# Altium integrated library Analog Devices Data Converters Digital-to-Analog Converters.IntLib: 2231 symbols (part 105 of 181)
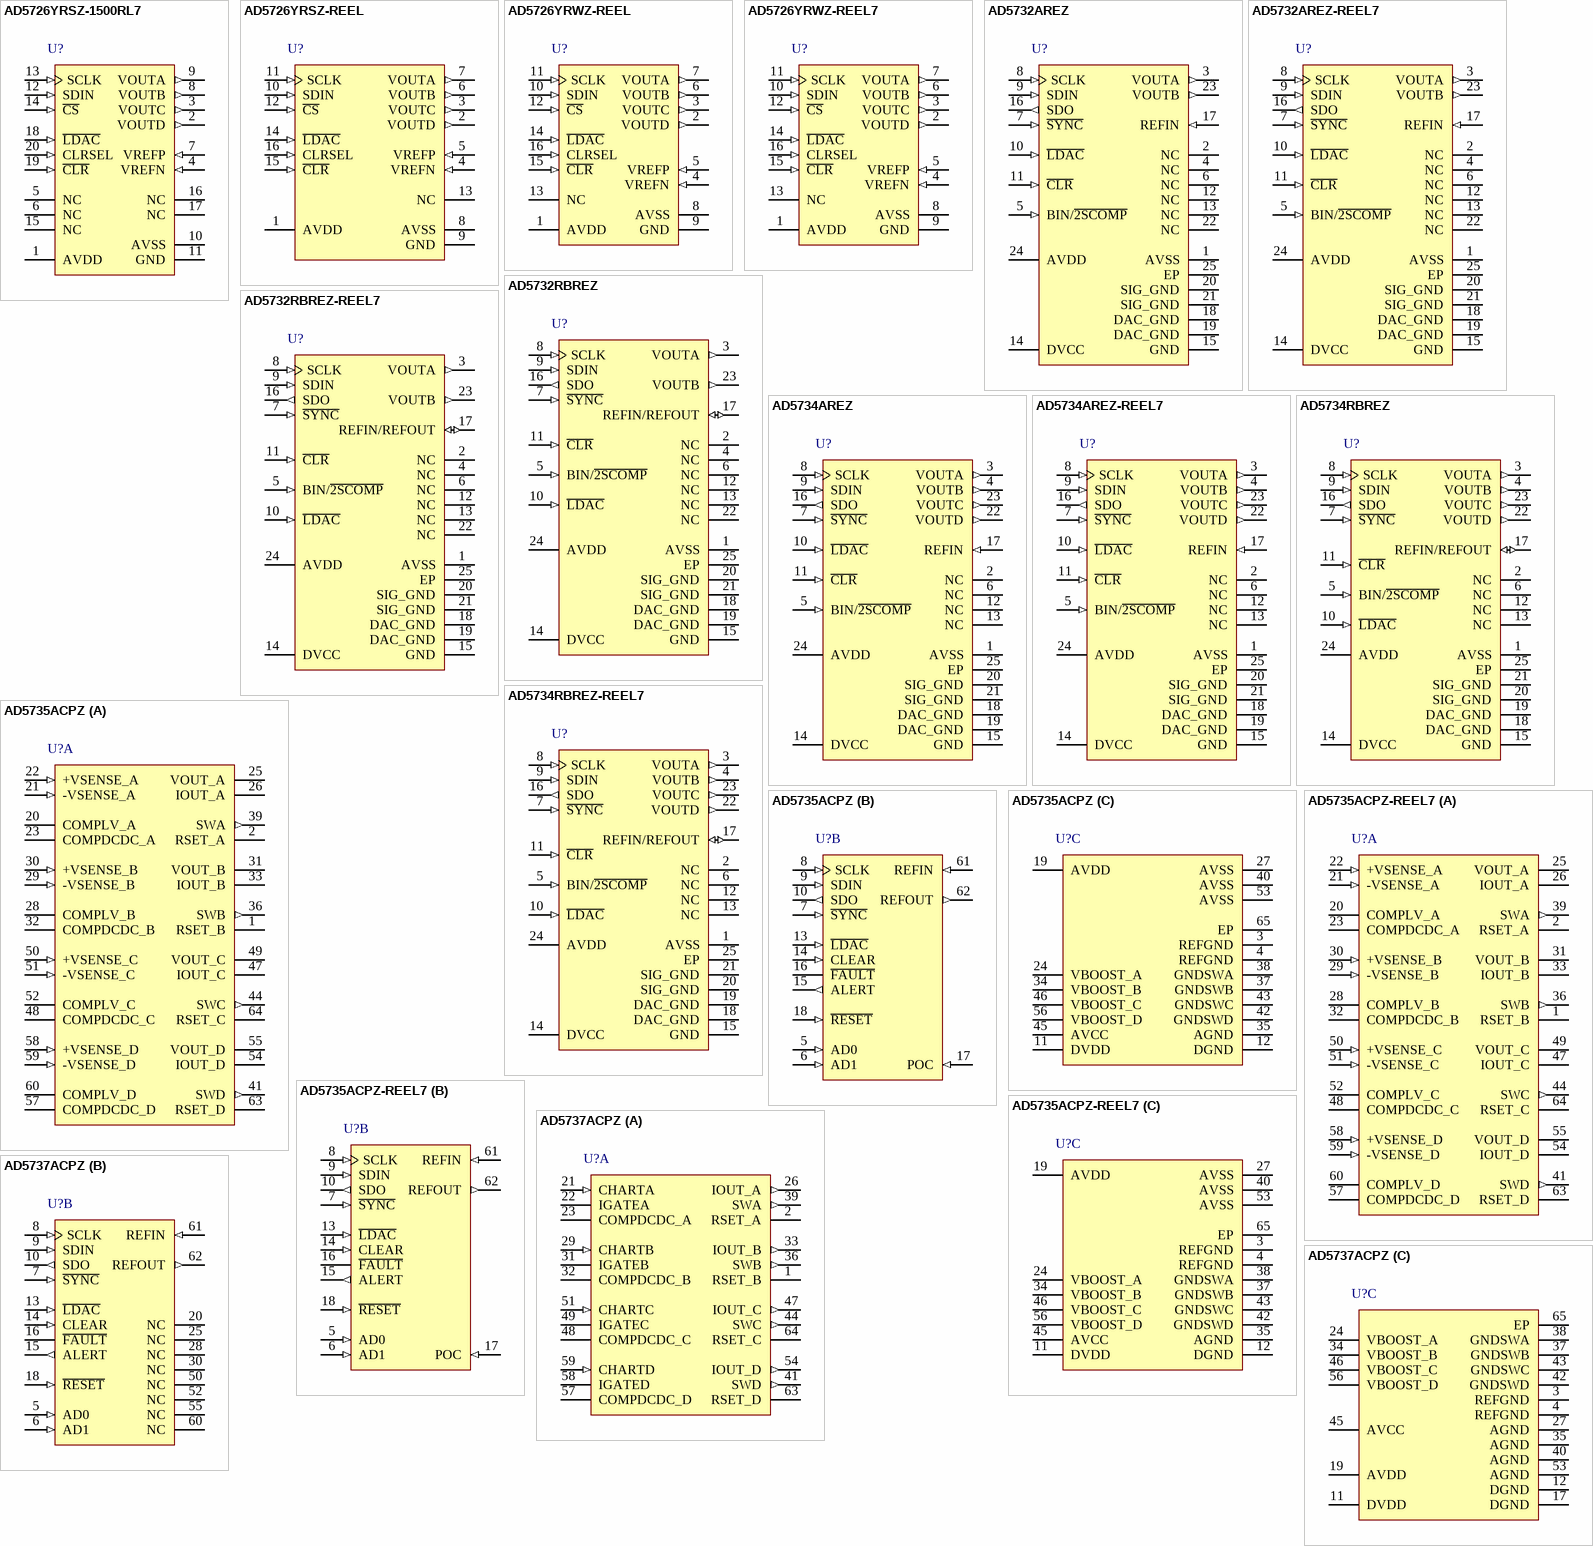
[diagram p218: symbols AD5726YRSZ-1500RL7 to AD5737ACPZ]

## AD5737ACPZ
designator U?
Quad 12-Bit Digital-to-Analog Converter with Serial Interface and HART Connectivity, 4 to 20 mA, -40 to +105 degC, CP-64-3, Pb-Free, Tray; Generic Part Number: AD5737; Manufacturer: Analog Devices; PartNumber: AD5737ACPZ; # DAC Outputs: 4; Max V+: 33V; Op Pwr Diss: 155mW; Resolution (Bits): 12; Settling Time: 15µs; Single Supply: No; DatasheetVersion: Rev.B; PackageVersion: 051007-C; PackageReference: CP-64-3; PackageDescription: 64-Lead Lead Frame Chip Scale Package [LFCSP_VQ] 9 x 9 mm Body, Very Thin Quad; Supplier 1: Digi-Key; Supplier Part Number 1: AD5737ACPZ-ND; Supplier 2: Farnell; Supplier Part Number 2: 2008772; Supplier 3: Newark; Supplier Part Number 3: 61T7405; Supplier 4: Newark; Supplier Part Number 4: 58T8899; Supplier 5: Mouser; Supplier Part Number 5: 584-AD5737ACPZ; Packing: Tray; RoHS: Y; Mounting Technology: Surface Mount; Code_JEDEC: MO-220-VMMD-4; ComponentLink1Description: Manufacturer URL; ComponentLink1URL: http://www.analog.com/en/index.html; ComponentLink2Description: Datasheet; ComponentLink2URL: http://www.analog.com/static/imported-files/data_sheets/AD5737.PDF; ComponentLink3Description: Package Specification; ComponentLink3URL: http://www.analog.com/static/imported-files/packages/PKG_PDF/LFCSP(CP)/CP_64_3.pdf; ComponentLink4Description: Product URL; ComponentLink4URL: http://www.analog.com/en/digital-to-analog-converters/da-converters/ad5737/products/product.html
footprint CP-64-3_N (QFN, 64-Leads, Body 9x9mm, Pitch 0.5mm, Thermal Pad 7.1x7.1mm, IPC Medium Density)
footprint CP-64-3_L (QFN, 64-Leads, Body 9x9mm, Pitch 0.5mm, Thermal Pad 7.1x7.1mm, IPC High Density)
footprint CP-64-3_M (QFN, 64-Leads, Body 9x9mm, Pitch 0.5mm, Thermal Pad 7.1x7.1mm, IPC Low Density)
part A pins: 1 RSET_B "An external, precision, low drift, 15 kohm current setting resistor can be connected to this pin to improve the IOUT_B temperature drift performance. For more information, see the External Current Setting Resistor section.", 2 RSET_A "An external, precision, low drift, 15 kohm current setting resistor can be connected to this pin to improve the IOUT_A temperature drift performance. For more information, see the External Current Setting Resistor section.", 21 CHARTA (in) "HART Input Connection for DAC Channel A. For more information, see the HART Connectivity section.", 22 IGATEA "Optional Connection for External Pass Transistor. Leave this pin unconnected when using the dc-to-dc converter. For more information, see the External PMOS Mode section.", 23 COMPDCDC_A "DC-to-DC Compensation Capacitor. Connect a 10 nF capacitor from this pin to ground. Used to regulate the feedback loop of the Channel A dc-to-dc converter. Alternatively, if using an external compensation resistor, place a (See Datasheet)", 26 IOUT_A (out) "Current Output Pin for DAC Channel A.", 29 CHARTB (in) "HART Input Connection for DAC Channel B. For more information, see the HART Connectivity section.", 31 IGATEB "Optional Connection for External Pass Transistor. Leave this pin unconnected when using the dc-to-dc converter. For more information, see the External PMOS Mode section.", 32 COMPDCDC_B "DC-to-DC Compensation Capacitor. Connect a 10 nF capacitor from this pin to ground. Used to regulate the feedback loop of the Channel B dc-to-dc converter. Alternatively, if using an external compensation resistor,feedback (See Datasheet)", 33 IOUT_B (out) "Current Output Pin for DAC Channel B.", 36 SWB (out) "Switching Output for Channel B DC-to-DC Circuitry. To use the dc-to-dc converter, connect this pin as shown in Figure 55.", 39 SWA (out) "Switching Output for Channel A DC-to-DC Circuitry. To use the dc-to-dc converter, connect this pin as shown in Figure 55.", 41 SWD (out) "Switching Output for Channel D DC-to-DC Circuitry. To use the dc-to-dc converter, connect this pin as shown in Figure 55.", 44 SWC (out) "Switching Output for Channel C DC-to-DC Circuitry. To use the dc-to-dc converter, connect this pin as shown in Figure 55.", 47 IOUT_C (out) "Current Output Pin for DAC Channel C.", 48 COMPDCDC_C "DC-to-DC Compensation Capacitor. Connect a 10 nF capacitor from this pin to ground. Used to regulate the feedback loop of the Channel C dc-to-dc converter. Alternatively, if using an external compensation resistor,place a (See Datasheet)", 49 IGATEC "Optional Connection for External Pass Transistor. Leave this pin unconnected when using the dc-to-dc converter. For more information, see the External PMOS Mode section.", 51 CHARTC (in) "HART Input Connection for DAC Channel C. For more information, see the HART Connectivity section.", 54 IOUT_D (out) "Current Output Pin for DAC Channel D.", 57 COMPDCDC_D "DC-to-DC Compensation Capacitor. Connect a 10 nF capacitor from this pin to ground. Used to regulate the feedback loop of the Channel D dc-to-dc converter. Alternatively, if using an external compensation resistor,place a (See Datasheet)", 58 IGATED "Optional Connection for External Pass Transistor. Leave this pin unconnected when using the dc-to-dc converter. For more information, see the External PMOS Mode section.", 59 CHARTD (in) "HART Input Connection for DAC Channel D. For more information, see the HART Connectivity section.", 63 RSET_D "An external, precision, low drift, 15 kohm current setting resistor can be connected to this pin to improve the IOUT_D temperature drift performance. For more information, see the External Current Setting Resistor section.", 64 RSET_C "An external, precision, low drift, 15 kohm current setting resistor can be connected to this pin to improve the IOUT_C temperature drift performance. For more information, see the External Current Setting Resistor section."
part B pins: 5 AD0 (in) "Address Decode for the Device Under Test (DUT) on the Board.", 6 AD1 (in) "Address Decode for the DUT on the Board.", 7 ~{SYNC} (in) "Frame Synchronization Signal for the Serial Interface. Active low input. When S\Y\N\C\ is low, data is clocked into the input shift register on the falling edge of SCLK.", 8 SCLK (in) "Serial Clock Input. Data is clocked into the input shift register on the falling edge of SCLK. The serial interface operates at clock speeds of up to 30 MHz.", 9 SDIN (in) "Serial Data Input. Data must be valid on the falling edge of SCLK.", 10 SDO (out) "Serial Data Output. Used to clock data from the serial register in readback mode (see Figure 4 and Figure 5).", 13 ~{LDAC} (in) "Load DAC. This active low input is used to update the DAC register and, consequently, the DAC outputs.When L\D\A\C\ is tied permanently low, the addressed DAC data register is updated on the rising edge of S\Y\N\C\. If (See Datasheet)", 14 CLEAR (in) "Active High, Edge Sensitive Input. When this pin is asserted, the output current is set to the programmed clear code bit setting. Only channels enabled to be cleared are cleared. For more information, see the Asynchronous (See Datasheet)", 15 ALERT (out) "Active High Output. This pin is asserted when there is no SPI activity on the interface pins for a preset time.", 16 ~{FAULT} (oc) "Active Low, Open-Drain Output. This pin is asserted low when any of the following conditions is detected:open circuit, PEC error, or an overtemperature condition (see the Fault Output section).", 18 ~{RESET} (in) "Hardware Reset, Active Low Input.", 20 NC "No Connect. Do not connect to this pin.", 25 NC "No Connect. Do not connect to this pin.", 28 NC "No Connect. Do not connect to this pin.", 30 NC "No Connect. Do not connect to this pin.", 50 NC "No Connect. Do not connect to this pin.", 52 NC "No Connect. Do not connect to this pin.", 55 NC "No Connect. Do not connect to this pin.", 60 NC "No Connect. Do not connect to this pin.", 61 REFIN (in) "External Reference Voltage Input.", 62 REFOUT (out) "Internal Reference Voltage Output. It is recommended that a 0.1 uF capacitor be placed between REFOUT and REFGND."
part C pins: 3 REFGND (power) "Ground Reference Point for Internal Reference.", 4 REFGND (power) "Ground Reference Point for Internal Reference.", 11 DVDD (power) "Digital Supply Pin. The voltage range is from 2.7 V to 5.5 V.", 12 DGND (power) "Digital Ground.", 17 DGND (power) "Digital Ground.", 19 AVDD (power) "Positive Analog Supply Pin. The voltage range is from 9 V to 33 V.", 24 VBOOST_A (power) "Supply for Channel A Current Output Stage (see Figure 48). To use the dc-to-dc converter, connect this pin as shown in Figure 55.", 27 AGND (power) "Ground Reference Point for Analog Circuitry. This pin must be connected to 0 V.", 34 VBOOST_B (power) "Supply for Channel B Current Output Stage (see Figure 48). To use the dc-to-dc converter, connect this pin as shown in Figure 55.", 35 AGND (power) "Ground Reference Point for Analog Circuitry. This pin must be connected to 0 V.", 37 GNDSWB (power) "Ground Connection for DC-to-DC Switching Circuit. This pin should always be connected to ground.", 38 GNDSWA (power) "Ground Connection for DC-to-DC Switching Circuit. This pin should always be connected to ground.", 40 AGND (power) "Ground Reference Point for Analog Circuitry. This pin must be connected to 0 V.", 42 GNDSWD (power) "Ground Connection for DC-to-DC Switching Circuit. This pin should always be connected to ground.", 43 GNDSWC (power) "Ground Connection for DC-to-DC Switching Circuit. This pin should always be connected to ground.", 45 AVCC (power) "Supply for DC-to-DC Circuitry. The voltage range is from 4.5 V to 5.5 V.", 46 VBOOST_C (power) "Supply for Channel C Current Output Stage (see Figure 48). To use the dc-to-dc converter, connect this pin as shown in Figure 55.", 53 AGND (power) "Ground Reference Point for Analog Circuitry. This pin must be connected to 0 V.", 56 VBOOST_D (power) "Supply for Channel D Current Output Stage (see Figure 48). To use the dc-to-dc converter, connect this pin as shown in Figure 55.", 65 EP (power) "Exposed Pad. The exposed paddle should be connected to AGND, or, alternatively, it can be left electrically unconnected. It is recommended that the paddle be thermally connected to a copper plane for enhanced thermal (See Datasheet)"

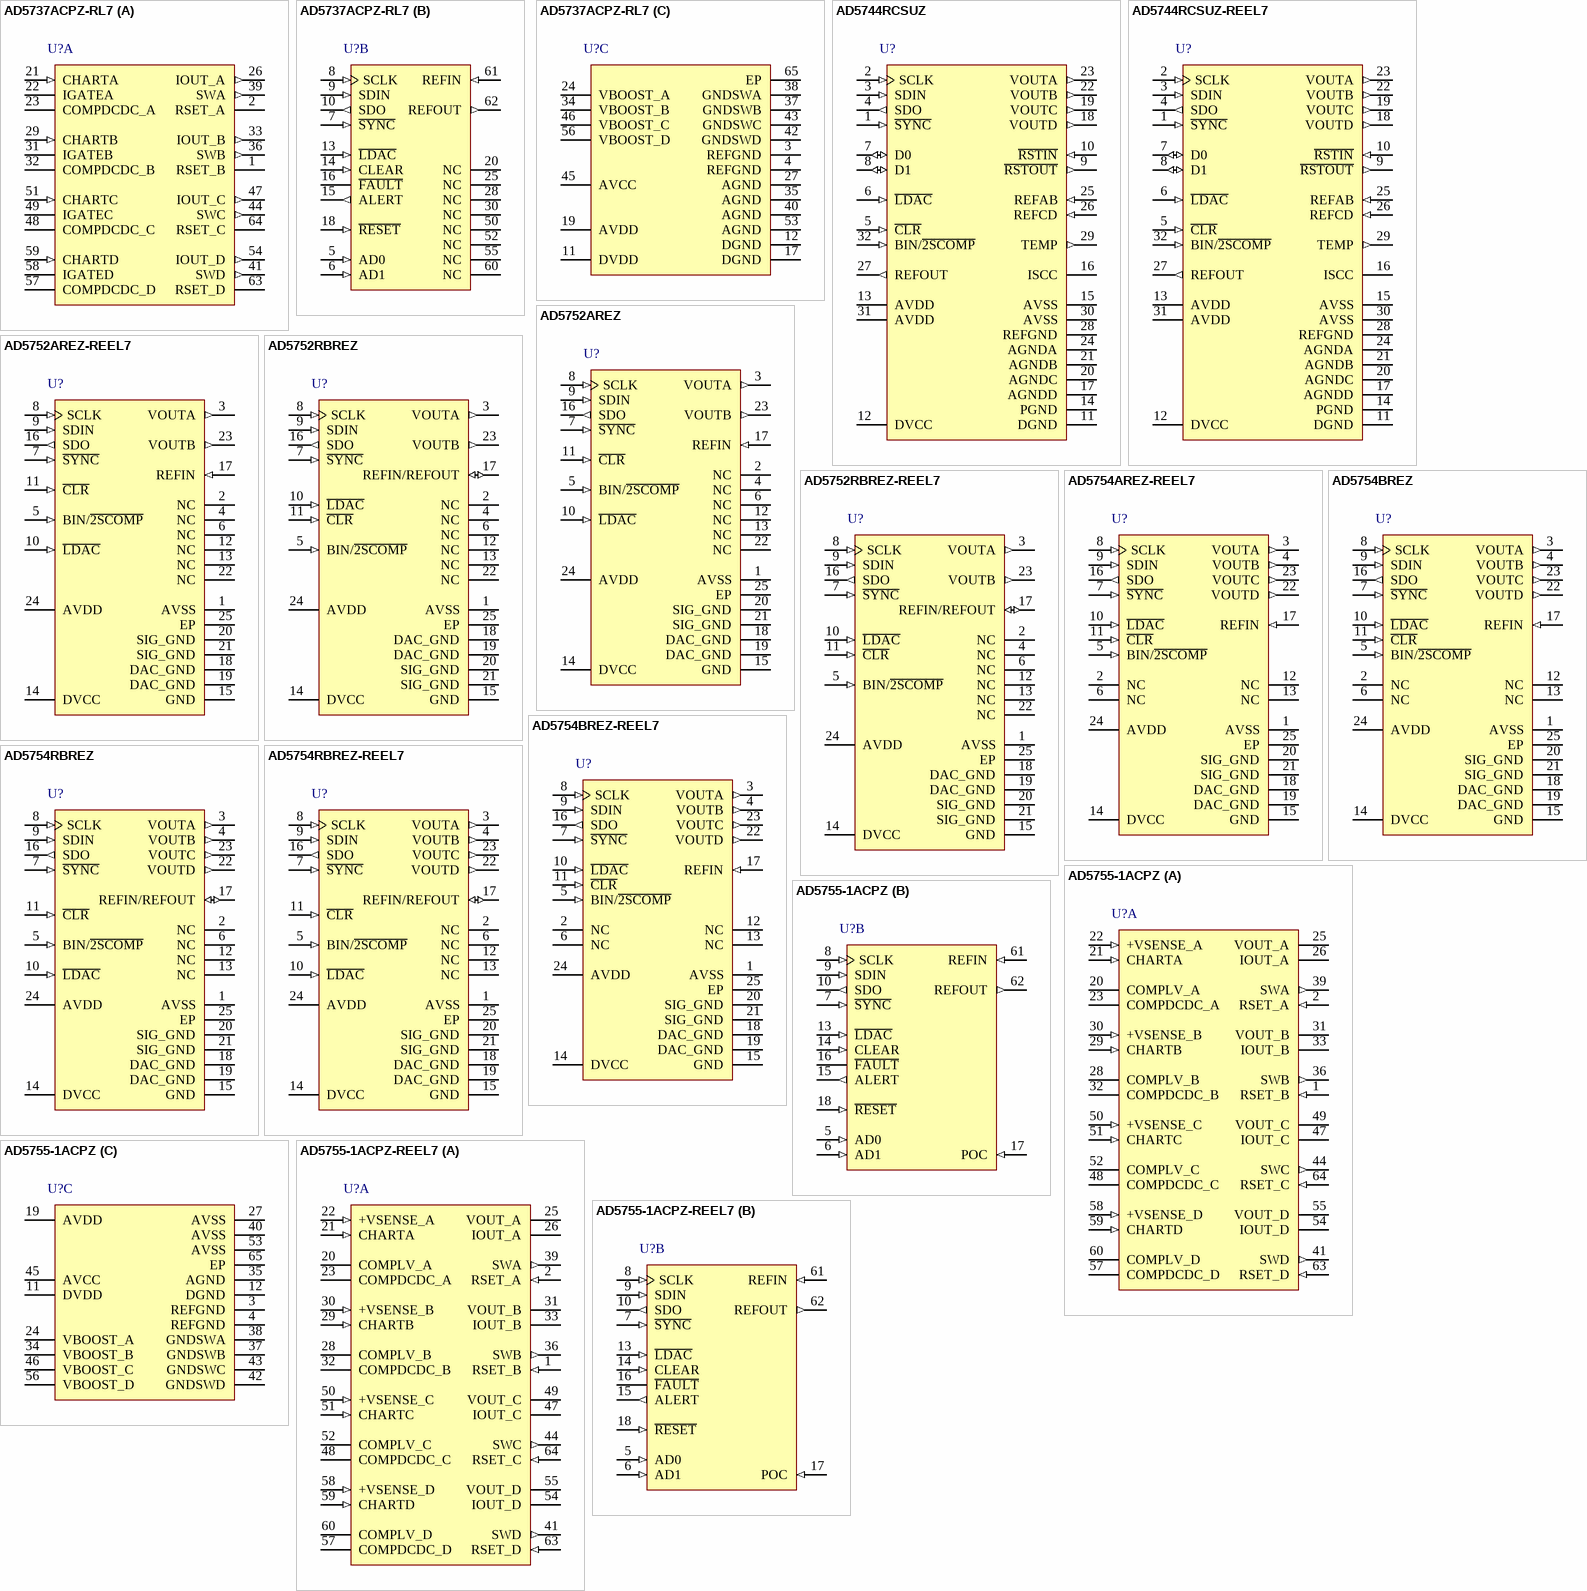
[diagram p55: symbols AD5737ACPZ-RL7 to AD5755-1ACPZ-REEL7]

## AD5737ACPZ-RL7
designator U?
Quad 12-Bit Digital-to-Analog Converter with Serial Interface and HART Connectivity, 4 to 20 mA, -40 to +105 degC, CP-64-3, Pb-Free, Reel; Generic Part Number: AD5737; Manufacturer: Analog Devices; PartNumber: AD5737ACPZ-RL7; # DAC Outputs: 4; Max V+: 33V; Op Pwr Diss: 155mW; Resolution (Bits): 12; Settling Time: 15µs; Single Supply: No; DatasheetVersion: Rev.B; PackageVersion: 051007-C; PackageReference: CP-64-3; PackageDescription: 64-Lead Lead Frame Chip Scale Package [LFCSP_VQ] 9 x 9 mm Body, Very Thin Quad; Supplier 1: Mouser; Supplier Part Number 1: N/A; Packing: Reel; RoHS: Y; Mounting Technology: Surface Mount; Code_JEDEC: MO-220-VMMD-4; ComponentLink1Description: Manufacturer URL; ComponentLink1URL: http://www.analog.com/en/index.html; ComponentLink2Description: Datasheet; ComponentLink2URL: http://www.analog.com/static/imported-files/data_sheets/AD5737.PDF; ComponentLink3Description: Package Specification; ComponentLink3URL: http://www.analog.com/static/imported-files/packages/PKG_PDF/LFCSP(CP)/CP_64_3.pdf; ComponentLink4Description: Product URL; ComponentLink4URL: http://www.analog.com/en/digital-to-analog-converters/da-converters/ad5737/products/product.html
footprint CP-64-3_N (QFN, 64-Leads, Body 9x9mm, Pitch 0.5mm, Thermal Pad 7.1x7.1mm, IPC Medium Density)
footprint CP-64-3_L (QFN, 64-Leads, Body 9x9mm, Pitch 0.5mm, Thermal Pad 7.1x7.1mm, IPC High Density)
footprint CP-64-3_M (QFN, 64-Leads, Body 9x9mm, Pitch 0.5mm, Thermal Pad 7.1x7.1mm, IPC Low Density)
part A pins: 1 RSET_B "An external, precision, low drift, 15 kohm current setting resistor can be connected to this pin to improve the IOUT_B temperature drift performance. For more information, see the External Current Setting Resistor section.", 2 RSET_A "An external, precision, low drift, 15 kohm current setting resistor can be connected to this pin to improve the IOUT_A temperature drift performance. For more information, see the External Current Setting Resistor section.", 21 CHARTA (in) "HART Input Connection for DAC Channel A. For more information, see the HART Connectivity section.", 22 IGATEA "Optional Connection for External Pass Transistor. Leave this pin unconnected when using the dc-to-dc converter. For more information, see the External PMOS Mode section.", 23 COMPDCDC_A "DC-to-DC Compensation Capacitor. Connect a 10 nF capacitor from this pin to ground. Used to regulate the feedback loop of the Channel A dc-to-dc converter. Alternatively, if using an external compensation resistor, place a (See Datasheet)", 26 IOUT_A (out) "Current Output Pin for DAC Channel A.", 29 CHARTB (in) "HART Input Connection for DAC Channel B. For more information, see the HART Connectivity section.", 31 IGATEB "Optional Connection for External Pass Transistor. Leave this pin unconnected when using the dc-to-dc converter. For more information, see the External PMOS Mode section.", 32 COMPDCDC_B "DC-to-DC Compensation Capacitor. Connect a 10 nF capacitor from this pin to ground. Used to regulate the feedback loop of the Channel B dc-to-dc converter. Alternatively, if using an external compensation resistor,feedback (See Datasheet)", 33 IOUT_B (out) "Current Output Pin for DAC Channel B.", 36 SWB (out) "Switching Output for Channel B DC-to-DC Circuitry. To use the dc-to-dc converter, connect this pin as shown in Figure 55.", 39 SWA (out) "Switching Output for Channel A DC-to-DC Circuitry. To use the dc-to-dc converter, connect this pin as shown in Figure 55.", 41 SWD (out) "Switching Output for Channel D DC-to-DC Circuitry. To use the dc-to-dc converter, connect this pin as shown in Figure 55.", 44 SWC (out) "Switching Output for Channel C DC-to-DC Circuitry. To use the dc-to-dc converter, connect this pin as shown in Figure 55.", 47 IOUT_C (out) "Current Output Pin for DAC Channel C.", 48 COMPDCDC_C "DC-to-DC Compensation Capacitor. Connect a 10 nF capacitor from this pin to ground. Used to regulate the feedback loop of the Channel C dc-to-dc converter. Alternatively, if using an external compensation resistor,place a (See Datasheet)", 49 IGATEC "Optional Connection for External Pass Transistor. Leave this pin unconnected when using the dc-to-dc converter. For more information, see the External PMOS Mode section.", 51 CHARTC (in) "HART Input Connection for DAC Channel C. For more information, see the HART Connectivity section.", 54 IOUT_D (out) "Current Output Pin for DAC Channel D.", 57 COMPDCDC_D "DC-to-DC Compensation Capacitor. Connect a 10 nF capacitor from this pin to ground. Used to regulate the feedback loop of the Channel D dc-to-dc converter. Alternatively, if using an external compensation resistor,place a (See Datasheet)", 58 IGATED "Optional Connection for External Pass Transistor. Leave this pin unconnected when using the dc-to-dc converter. For more information, see the External PMOS Mode section.", 59 CHARTD (in) "HART Input Connection for DAC Channel D. For more information, see the HART Connectivity section.", 63 RSET_D "An external, precision, low drift, 15 kohm current setting resistor can be connected to this pin to improve the IOUT_D temperature drift performance. For more information, see the External Current Setting Resistor section.", 64 RSET_C "An external, precision, low drift, 15 kohm current setting resistor can be connected to this pin to improve the IOUT_C temperature drift performance. For more information, see the External Current Setting Resistor section."
part B pins: 5 AD0 (in) "Address Decode for the Device Under Test (DUT) on the Board.", 6 AD1 (in) "Address Decode for the DUT on the Board.", 7 ~{SYNC} (in) "Frame Synchronization Signal for the Serial Interface. Active low input. When S\Y\N\C\ is low, data is clocked into the input shift register on the falling edge of SCLK.", 8 SCLK (in) "Serial Clock Input. Data is clocked into the input shift register on the falling edge of SCLK. The serial interface operates at clock speeds of up to 30 MHz.", 9 SDIN (in) "Serial Data Input. Data must be valid on the falling edge of SCLK.", 10 SDO (out) "Serial Data Output. Used to clock data from the serial register in readback mode (see Figure 4 and Figure 5).", 13 ~{LDAC} (in) "Load DAC. This active low input is used to update the DAC register and, consequently, the DAC outputs.When L\D\A\C\ is tied permanently low, the addressed DAC data register is updated on the rising edge of S\Y\N\C\. If (See Datasheet)", 14 CLEAR (in) "Active High, Edge Sensitive Input. When this pin is asserted, the output current is set to the programmed clear code bit setting. Only channels enabled to be cleared are cleared. For more information, see the Asynchronous (See Datasheet)", 15 ALERT (out) "Active High Output. This pin is asserted when there is no SPI activity on the interface pins for a preset time.", 16 ~{FAULT} (oc) "Active Low, Open-Drain Output. This pin is asserted low when any of the following conditions is detected:open circuit, PEC error, or an overtemperature condition (see the Fault Output section).", 18 ~{RESET} (in) "Hardware Reset, Active Low Input.", 20 NC "No Connect. Do not connect to this pin.", 25 NC "No Connect. Do not connect to this pin.", 28 NC "No Connect. Do not connect to this pin.", 30 NC "No Connect. Do not connect to this pin.", 50 NC "No Connect. Do not connect to this pin.", 52 NC "No Connect. Do not connect to this pin.", 55 NC "No Connect. Do not connect to this pin.", 60 NC "No Connect. Do not connect to this pin.", 61 REFIN (in) "External Reference Voltage Input.", 62 REFOUT (out) "Internal Reference Voltage Output. It is recommended that a 0.1 uF capacitor be placed between REFOUT and REFGND."
part C pins: 3 REFGND (power) "Ground Reference Point for Internal Reference.", 4 REFGND (power) "Ground Reference Point for Internal Reference.", 11 DVDD (power) "Digital Supply Pin. The voltage range is from 2.7 V to 5.5 V.", 12 DGND (power) "Digital Ground.", 17 DGND (power) "Digital Ground.", 19 AVDD (power) "Positive Analog Supply Pin. The voltage range is from 9 V to 33 V.", 24 VBOOST_A (power) "Supply for Channel A Current Output Stage (see Figure 48). To use the dc-to-dc converter, connect this pin as shown in Figure 55.", 27 AGND (power) "Ground Reference Point for Analog Circuitry. This pin must be connected to 0 V.", 34 VBOOST_B (power) "Supply for Channel B Current Output Stage (see Figure 48). To use the dc-to-dc converter, connect this pin as shown in Figure 55.", 35 AGND (power) "Ground Reference Point for Analog Circuitry. This pin must be connected to 0 V.", 37 GNDSWB (power) "Ground Connection for DC-to-DC Switching Circuit. This pin should always be connected to ground.", 38 GNDSWA (power) "Ground Connection for DC-to-DC Switching Circuit. This pin should always be connected to ground.", 40 AGND (power) "Ground Reference Point for Analog Circuitry. This pin must be connected to 0 V.", 42 GNDSWD (power) "Ground Connection for DC-to-DC Switching Circuit. This pin should always be connected to ground.", 43 GNDSWC (power) "Ground Connection for DC-to-DC Switching Circuit. This pin should always be connected to ground.", 45 AVCC (power) "Supply for DC-to-DC Circuitry. The voltage range is from 4.5 V to 5.5 V.", 46 VBOOST_C (power) "Supply for Channel C Current Output Stage (see Figure 48). To use the dc-to-dc converter, connect this pin as shown in Figure 55.", 53 AGND (power) "Ground Reference Point for Analog Circuitry. This pin must be connected to 0 V.", 56 VBOOST_D (power) "Supply for Channel D Current Output Stage (see Figure 48). To use the dc-to-dc converter, connect this pin as shown in Figure 55.", 65 EP (power) "Exposed Pad. The exposed paddle should be connected to AGND, or, alternatively, it can be left electrically unconnected. It is recommended that the paddle be thermally connected to a copper plane for enhanced thermal (See Datasheet)"

## AD5744RCSUZ
designator U?
Quad 14-Bit Bipolar Voltage Output Digital-to-Analog Converter with Serial Interface, -40 to +85 degC, SU-32-2, Pb-Free, Tray; Generic Part Number: AD5744R; Manufacturer: Analog Devices; PartNumber: AD5744RCSUZ; # DAC Outputs: 4; Max V+: 16.5V; Op Pwr Diss: 387mW; Resolution (Bits): 14; Settling Time: 8µs; Single Supply: No; DatasheetVersion: Rev.E; PackageVersion: 2004; PackageReference: SU-32-2; PackageDescription: 32-Lead Thin Plastic Quad Flat Package [TQFP]; Supplier 1: Digi-Key; Supplier Part Number 1: AD5744RCSUZ-ND; Supplier 2: Newark; Supplier Part Number 2: 34P3170; Supplier 3: Mouser; Supplier Part Number 3: 584-AD5744RCSUZ; Packing: Tray; RoHS: Y; Mounting Technology: Surface Mount; Code_JEDEC: MS-026-ABA; ComponentLink1Description: Manufacturer URL; ComponentLink1URL: http://www.analog.com/en/index.html; ComponentLink2Description: Datasheet; ComponentLink2URL: http://www.analog.com/static/imported-files/data_sheets/AD5744R.pdf; ComponentLink3Description: Package Specification; ComponentLink3URL: http://www.analog.com/static/imported-files/packages/6298531260360306615SU_32_2.pdf; ComponentLink4Description: Product URL; ComponentLink4URL: http://www.analog.com/en/digital-to-analog-converters/da-converters/ad5744r/products/product.html
footprint SU-32-2_N (Thin QFP, 32-Leads, Body 7x7mm, Pitch 0.8mm, IPC Medium Density)
footprint SU-32-2_L (Thin QFP, 32-Leads, Body 7x7mm, Pitch 0.8mm, IPC High Density)
footprint SU-32-2_M (Thin QFP, 32-Leads, Body 7x7mm, Pitch 0.8mm, IPC Low Density)
pins: 1 ~{SYNC} (in) "Active Low Input. This is the frame synchronization signal for the serial interface. While S\Y\N\C\ is low, data is transferred in on the falling edge of SCLK.", 2 SCLK (in) "Serial Clock Input. Data is clocked into the shift register on the falling edge of SCLK. This operates at clock speeds of up to 30 MHz.", 3 SDIN (in) "Serial Data Input. Data must be valid on the falling edge of SCLK.", 4 SDO (out) "Serial Data Output. This pin is used to clock data from the serial register in daisy-chain or readback mode", 5 ~{CLR} (in) "Negative Edge Triggered Input.1 Asserting this pin sets the data register to 0x0000.", 6 ~{LDAC} (in) "Load DAC. This logic input is used to update the data register and, consequently, the analog outputs. When tied permanently low, the addressed data register is updated on the rising edge of S\Y\N\C\. If L\D\A\C\ is held high (See Datasheet)", 7 D0 (io) "Digital I/O Port. D0 and D1 form a digital I/O port. The user can set up these pins as inputs or outputs that are configurable and readable over the serial interface. When configured as inputs, these pins have weak internal (See Datasheet)", 8 D1 (io) "Digital I/O Port. D0 and D1 form a digital I/O port. The user can set up these pins as inputs or outputs that are configurable and readable over the serial interface. When configured as inputs, these pins have weak internal (See Datasheet)", 9 ~{RSTOUT} (out) "Reset Logic Output. This is the output from the on-chip voltage monitor used in the reset circuit. If desired, it can be used to control other system components.", 10 ~{RSTIN} (in) "Reset Logic Input. This input allows external access to the internal reset logic. Applying a Logic 0 to this input clamps the DAC outputs to 0 V. In normal operation, R\S\T\I\N\ should be tied to Logic 1. Register values (See Datasheet)", 11 DGND (power) "Digital Ground Pin.", 12 DVCC (power) "Digital Supply Pin. Voltage ranges from 2.7 V to 5.25 V.", 13 AVDD (power) "Positive Analog Supply Pins. Voltage ranges from 11.4 V to 16.5 V.", 14 PGND (power) "Ground Reference Point for Analog Circuitry.", 15 AVSS (power) "Negative Analog Supply Pins. Voltage ranges from -11.4 V to -16.5 V.", 16 ISCC "This pin is used in association with an optional external resistor to AGND to program the short-circuit current of the output amplifiers. Refer to the Design Features section for more information.", 17 AGNDD (power) "Ground Reference Pin for DAC D Output Amplifier.", 18 VOUTD (out) "Analog Output Voltage of DAC D. Buffered output with a nominal full-scale output range of +/-10 V. The output amplifier is capable of directly driving a 10 kohm, 200 pF load.", 19 VOUTC (out) "Analog Output Voltage of DAC C. Buffered output with a nominal full-scale output range of +/-10 V. The output amplifier is capable of directly driving a 10 kohm, 200 pF load.", 20 AGNDC (power) "Ground Reference Pin for DAC C Output Amplifier.", 21 AGNDB (power) "Ground Reference Pin for DAC B Output Amplifier.", 22 VOUTB (out) "Analog Output Voltage of DAC B. Buffered output with a nominal full-scale output range of +/-10 V. The output amplifier is capable of directly driving a 10 kohm, 200 pF load.", 23 VOUTA (out) "Analog Output Voltage of DAC A. Buffered output with a nominal full-scale output range of +/-10 V. The output amplifier is capable of directly driving a 10 kohm, 200 pF load.", 24 AGNDA (power) "Ground Reference Pin for DAC A Output Amplifier.", 25 REFAB (in) "External Reference Voltage Input for Channel A and Channel B. The reference input range is 1 V to 7 V, and it programs the full-scale output voltage. VREFIN = 5 V for specified performance.", 26 REFCD (in) "External Reference Voltage Input for Channel C and Channel D. The reference input range is 1 V to 7 V, and it programs the full-scale output voltage. VREFIN = 5 V for specified performance.", 27 REFOUT (out) "Reference Output. This is the reference output from the internal voltage reference. The internal reference is 5 V +/- 3 mV at 25 degC, with a reference temperature coefficient of 10 ppm/degC.", 28 REFGND (power) "Reference Ground Return for the Reference Generator and Buffers.", 29 TEMP (out) "This pin provides an output voltage proportional to temperature. The output voltage is 1.47 V typical at 25 degC die temperature; variation with temperature is 5 mV/ degC.", 30 AVSS (power) "Negative Analog Supply Pins. Voltage ranges from -11.4 V to -16.5 V.", 31 AVDD (power) "Positive Analog Supply Pins. Voltage ranges from 11.4 V to 16.5 V.", 32 BIN/~{2SCOMP} (in) "This pin determines the DAC coding. This pin should be hardwired to either DVCC or DGND. When hardwired to DVCC, input coding is offset binary (see Table 7). When hardwired to DGND, input coding is twos complement (see Table (See Datasheet)"

## AD5744RCSUZ-REEL7
designator U?
Quad 14-Bit Bipolar Voltage Output Digital-to-Analog Converter with Serial Interface, -40 to +85 degC, SU-32-2, Pb-Free, Reel; Generic Part Number: AD5744R; Manufacturer: Analog Devices; PartNumber: AD5744RCSUZ-REEL7; # DAC Outputs: 4; Max V+: 16.5V; Op Pwr Diss: 387mW; Resolution (Bits): 14; Settling Time: 8µs; Single Supply: No; DatasheetVersion: Rev.E; PackageVersion: 2004; PackageReference: SU-32-2; PackageDescription: 32-Lead Thin Plastic Quad Flat Package [TQFP]; Supplier 1: Digi-Key; Supplier Part Number 1: AD5744RCSUZ-REEL7-ND; Supplier 2: Mouser; Supplier Part Number 2: 584-AD5744RCSUZ-R7; Packing: Reel; RoHS: Y; Mounting Technology: Surface Mount; Code_JEDEC: MS-026-ABA; ComponentLink1Description: Manufacturer URL; ComponentLink1URL: http://www.analog.com/en/index.html; ComponentLink2Description: Datasheet; ComponentLink2URL: http://www.analog.com/static/imported-files/data_sheets/AD5744R.pdf; ComponentLink3Description: Package Specification; ComponentLink3URL: http://www.analog.com/static/imported-files/packages/6298531260360306615SU_32_2.pdf; ComponentLink4Description: Product URL; ComponentLink4URL: http://www.analog.com/en/digital-to-analog-converters/da-converters/ad5744r/products/product.html
footprint SU-32-2_N (Thin QFP, 32-Leads, Body 7x7mm, Pitch 0.8mm, IPC Medium Density)
footprint SU-32-2_L (Thin QFP, 32-Leads, Body 7x7mm, Pitch 0.8mm, IPC High Density)
footprint SU-32-2_M (Thin QFP, 32-Leads, Body 7x7mm, Pitch 0.8mm, IPC Low Density)
pins: 1 ~{SYNC} (in) "Active Low Input. This is the frame synchronization signal for the serial interface. While S\Y\N\C\ is low, data is transferred in on the falling edge of SCLK.", 2 SCLK (in) "Serial Clock Input. Data is clocked into the shift register on the falling edge of SCLK. This operates at clock speeds of up to 30 MHz.", 3 SDIN (in) "Serial Data Input. Data must be valid on the falling edge of SCLK.", 4 SDO (out) "Serial Data Output. This pin is used to clock data from the serial register in daisy-chain or readback mode", 5 ~{CLR} (in) "Negative Edge Triggered Input.1 Asserting this pin sets the data register to 0x0000.", 6 ~{LDAC} (in) "Load DAC. This logic input is used to update the data register and, consequently, the analog outputs. When tied permanently low, the addressed data register is updated on the rising edge of S\Y\N\C\. If L\D\A\C\ is held high (See Datasheet)", 7 D0 (io) "Digital I/O Port. D0 and D1 form a digital I/O port. The user can set up these pins as inputs or outputs that are configurable and readable over the serial interface. When configured as inputs, these pins have weak internal (See Datasheet)", 8 D1 (io) "Digital I/O Port. D0 and D1 form a digital I/O port. The user can set up these pins as inputs or outputs that are configurable and readable over the serial interface. When configured as inputs, these pins have weak internal (See Datasheet)", 9 ~{RSTOUT} (out) "Reset Logic Output. This is the output from the on-chip voltage monitor used in the reset circuit. If desired, it can be used to control other system components.", 10 ~{RSTIN} (in) "Reset Logic Input. This input allows external access to the internal reset logic. Applying a Logic 0 to this input clamps the DAC outputs to 0 V. In normal operation, R\S\T\I\N\ should be tied to Logic 1. Register values (See Datasheet)", 11 DGND (power) "Digital Ground Pin.", 12 DVCC (power) "Digital Supply Pin. Voltage ranges from 2.7 V to 5.25 V.", 13 AVDD (power) "Positive Analog Supply Pins. Voltage ranges from 11.4 V to 16.5 V.", 14 PGND (power) "Ground Reference Point for Analog Circuitry.", 15 AVSS (power) "Negative Analog Supply Pins. Voltage ranges from -11.4 V to -16.5 V.", 16 ISCC "This pin is used in association with an optional external resistor to AGND to program the short-circuit current of the output amplifiers. Refer to the Design Features section for more information.", 17 AGNDD (power) "Ground Reference Pin for DAC D Output Amplifier.", 18 VOUTD (out) "Analog Output Voltage of DAC D. Buffered output with a nominal full-scale output range of +/-10 V. The output amplifier is capable of directly driving a 10 kohm, 200 pF load.", 19 VOUTC (out) "Analog Output Voltage of DAC C. Buffered output with a nominal full-scale output range of +/-10 V. The output amplifier is capable of directly driving a 10 kohm, 200 pF load.", 20 AGNDC (power) "Ground Reference Pin for DAC C Output Amplifier.", 21 AGNDB (power) "Ground Reference Pin for DAC B Output Amplifier.", 22 VOUTB (out) "Analog Output Voltage of DAC B. Buffered output with a nominal full-scale output range of +/-10 V. The output amplifier is capable of directly driving a 10 kohm, 200 pF load.", 23 VOUTA (out) "Analog Output Voltage of DAC A. Buffered output with a nominal full-scale output range of +/-10 V. The output amplifier is capable of directly driving a 10 kohm, 200 pF load.", 24 AGNDA (power) "Ground Reference Pin for DAC A Output Amplifier.", 25 REFAB (in) "External Reference Voltage Input for Channel A and Channel B. The reference input range is 1 V to 7 V, and it programs the full-scale output voltage. VREFIN = 5 V for specified performance.", 26 REFCD (in) "External Reference Voltage Input for Channel C and Channel D. The reference input range is 1 V to 7 V, and it programs the full-scale output voltage. VREFIN = 5 V for specified performance.", 27 REFOUT (out) "Reference Output. This is the reference output from the internal voltage reference. The internal reference is 5 V +/- 3 mV at 25 degC, with a reference temperature coefficient of 10 ppm/degC.", 28 REFGND (power) "Reference Ground Return for the Reference Generator and Buffers.", 29 TEMP (out) "This pin provides an output voltage proportional to temperature. The output voltage is 1.47 V typical at 25 degC die temperature; variation with temperature is 5 mV/ degC.", 30 AVSS (power) "Negative Analog Supply Pins. Voltage ranges from -11.4 V to -16.5 V.", 31 AVDD (power) "Positive Analog Supply Pins. Voltage ranges from 11.4 V to 16.5 V.", 32 BIN/~{2SCOMP} (in) "This pin determines the DAC coding. This pin should be hardwired to either DVCC or DGND. When hardwired to DVCC, input coding is offset binary (see Table 7). When hardwired to DGND, input coding is twos complement (see Table (See Datasheet)"

## AD5752AREZ
designator U?
16-Bit Voltage Output Digital-to-Analog Converter with Serial Interface, -40 to +85 degC, RE-24, Pb-Free, Tube; Generic Part Number: AD5752; Manufacturer: Analog Devices; PartNumber: AD5752AREZ; # DAC Outputs: 2; Max V+: 16.5V; Op Pwr Diss: 190mW; Resolution (Bits): 16; Settling Time: 10µs; Single Supply: Yes; DatasheetVersion: Rev.D; PackageVersion: 050806-A; PackageReference: RE-24; PackageDescription: 24-Lead Thin Shrink Small Outline Package, Exposed Pad [TSSOP_EP]; Supplier 1: Digi-Key; Supplier Part Number 1: AD5752AREZ-ND; Supplier 2: Farnell; Supplier Part Number 2: 2312756; Supplier 3: Newark; Supplier Part Number 3: 34P3172; Supplier 4: Mouser; Supplier Part Number 4: 584-AD5752AREZ; Packing: Tube; RoHS: Y; Mounting Technology: Surface Mount; Code_JEDEC: MO-153-ADT; ComponentLink1Description: Manufacturer URL; ComponentLink1URL: http://www.analog.com/en/index.html; ComponentLink2Description: Datasheet; ComponentLink2URL: http://www.analog.com/static/imported-files/data_sheets/AD5722_5732_5752.pdf; ComponentLink3Description: Package Specification; ComponentLink3URL: http://www.analog.com/static/imported-files/packages/PKG_PDF/TSSOP_EP(RE)/RE_24.pdf; ComponentLink4Description: Product URL; ComponentLink4URL: http://www.analog.com/en/digital-to-analog-converters/da-converters/ad5752/products/product.html; ComponentLink5Description: Reference Design URL; ComponentLink5URL: http://www.analog.com/en/digital-to-analog-converters/da-converters/ad5752/products/product.html#prod_cross_sell
footprint RE-24_N (TSOP, 24-Leads, Body 7.8x4.4mm, Pitch 0.65mm, Thermal pad 5.02x3.25 mm, IPC Medium Density)
footprint RE-24_L (TSOP, 24-Leads, Body 7.8x4.4mm, Pitch 0.65mm, Thermal pad 5.02x3.25 mm, IPC High Density)
footprint RE-24_M (TSOP, 24-Leads, Body 7.8x4.4mm, Pitch 0.65mm, Thermal pad 5.02x3.25 mm, IPC Low Density)
pins: 1 AVSS (power) "Negative Analog Supply. Voltage ranges from -4.5 V to -16.5 V. This pin can be connected to 0 V if output  ranges are unipolar.", 2 NC "Do not connect to these pins.", 3 VOUTA (out) "Analog Output Voltage of DAC A. The output amplifier is capable of directly driving a 2 kohm, 4000 pF load.", 4 NC "Do not connect to these pins.", 5 BIN/~{2SCOMP} (in) "Determines the DAC coding for a bipolar output range. This pin should be hardwired to either DVCC or GND.When hardwired to DVCC, input coding is offset binary. When hardwired to GND, input coding is twos complement. (For (See Datasheet)", 6 NC "Do not connect to these pins.", 7 ~{SYNC} (in) "Active Low Input. This is the frame synchronization signal for the serial interface. While S\Y\N\C\ is low, data is transferred on the falling edge of SCLK. Data is latched on the rising edge of S\Y\N\C\.", 8 SCLK (in) "Serial Clock Input. Data is clocked into the shift register on the falling edge of SCLK. This operates at clock speeds up to 30 MHz.", 9 SDIN (in) "Serial Data Input. Data must be valid on the falling edge of SCLK.", 10 ~{LDAC} (in) "Load DAC, Logic Input. This is used to update the DAC registers and, consequently, the analog outputs. When this pin is tied permanently low, the addressed DAC register is updated on the rising edge of S\Y\N\C\. If L\D\A\C\  (See Datasheet)", 11 ~{CLR} (in) "Active Low Input. Asserting this pin sets the DAC registers to zero-scale code or midscale code (user-selectable).", 12 NC "Do not connect to these pins.", 13 NC "Do not connect to these pins.", 14 DVCC (power) "Digital Supply. Voltage ranges from 2.7 V to 5.5 V.", 15 GND (power) "Ground Reference.", 16 SDO (out) "Serial Data Output. Used to clock data from the serial register in daisy-chain or readback mode. Data is clocked out on the rising edge of SCLK and is valid on the falling edge of SCLK.", 17 REFIN (in) "External Reference Voltage Input. Reference input range is 2 V to 3 V. REFIN = 2.5 V for specified performance.", 18 DAC_GND (power) "Ground Reference for the Two Digital-to-Analog Converters (DACs).", 19 DAC_GND (power) "Ground Reference for the Two Digital-to-Analog Converters (DACs).", 20 SIG_GND (power) "Ground Reference for the Two Output Amplifiers.", 21 SIG_GND (power) "Ground Reference for the Two Output Amplifiers.", 22 NC "Do not connect to these pins.", 23 VOUTB (out) "Analog Output Voltage of DAC B. The output amplifier is capable of directly driving a 2 kohm, 4000 pF load.", 24 AVDD (power) "Positive Analog Supply. Voltage ranges from 4.5 V to 16.5 V.", 25 EP (power) "This exposed paddle should be connected to the potential of the AVSS pin, or alternatively, it can be left electrically  unconnected. It is recommended that the paddle be thermally connected to a copper plane for enhanced (See Datasheet)"

## AD5752AREZ-REEL7
designator U?
16-Bit Voltage Output Digital-to-Analog Converter with Serial Interface, -40 to +85 degC, RE-24, Pb-Free, Reel; Generic Part Number: AD5752; Manufacturer: Analog Devices; PartNumber: AD5752AREZ-REEL7; # DAC Outputs: 2; Max V+: 16.5V; Op Pwr Diss: 190mW; Resolution (Bits): 16; Settling Time: 10µs; Single Supply: Yes; DatasheetVersion: Rev.D; PackageVersion: 050806-A; PackageReference: RE-24; PackageDescription: 24-Lead Thin Shrink Small Outline Package, Exposed Pad [TSSOP_EP]; Supplier 1: Digi-Key; Supplier Part Number 1: AD5752AREZ-REEL7-ND; Supplier 2: Mouser; Supplier Part Number 2: 584-AD5752AREZ-R7; Packing: Reel; RoHS: Y; Mounting Technology: Surface Mount; Code_JEDEC: MO-153-ADT; ComponentLink1Description: Manufacturer URL; ComponentLink1URL: http://www.analog.com/en/index.html; ComponentLink2Description: Datasheet; ComponentLink2URL: http://www.analog.com/static/imported-files/data_sheets/AD5722_5732_5752.pdf; ComponentLink3Description: Package Specification; ComponentLink3URL: http://www.analog.com/static/imported-files/packages/PKG_PDF/TSSOP_EP(RE)/RE_24.pdf; ComponentLink4Description: Product URL; ComponentLink4URL: http://www.analog.com/en/digital-to-analog-converters/da-converters/ad5752/products/product.html; ComponentLink5Description: Reference Design URL; ComponentLink5URL: http://www.analog.com/en/digital-to-analog-converters/da-converters/ad5752/products/product.html#prod_cross_sell
footprint RE-24_N (TSOP, 24-Leads, Body 7.8x4.4mm, Pitch 0.65mm, Thermal pad 5.02x3.25 mm, IPC Medium Density)
footprint RE-24_L (TSOP, 24-Leads, Body 7.8x4.4mm, Pitch 0.65mm, Thermal pad 5.02x3.25 mm, IPC High Density)
footprint RE-24_M (TSOP, 24-Leads, Body 7.8x4.4mm, Pitch 0.65mm, Thermal pad 5.02x3.25 mm, IPC Low Density)
pins: 1 AVSS (power) "Negative Analog Supply. Voltage ranges from -4.5 V to -16.5 V. This pin can be connected to 0 V if output  ranges are unipolar.", 2 NC "Do not connect to these pins.", 3 VOUTA (out) "Analog Output Voltage of DAC A. The output amplifier is capable of directly driving a 2 kohm, 4000 pF load.", 4 NC "Do not connect to these pins.", 5 BIN/~{2SCOMP} (in) "Determines the DAC coding for a bipolar output range. This pin should be hardwired to either DVCC or GND.When hardwired to DVCC, input coding is offset binary. When hardwired to GND, input coding is twos complement. (For (See Datasheet)", 6 NC "Do not connect to these pins.", 7 ~{SYNC} (in) "Active Low Input. This is the frame synchronization signal for the serial interface. While S\Y\N\C\ is low, data is transferred on the falling edge of SCLK. Data is latched on the rising edge of S\Y\N\C\.", 8 SCLK (in) "Serial Clock Input. Data is clocked into the shift register on the falling edge of SCLK. This operates at clock speeds up to 30 MHz.", 9 SDIN (in) "Serial Data Input. Data must be valid on the falling edge of SCLK.", 10 ~{LDAC} (in) "Load DAC, Logic Input. This is used to update the DAC registers and, consequently, the analog outputs. When this pin is tied permanently low, the addressed DAC register is updated on the rising edge of S\Y\N\C\. If L\D\A\C\  (See Datasheet)", 11 ~{CLR} (in) "Active Low Input. Asserting this pin sets the DAC registers to zero-scale code or midscale code (user-selectable).", 12 NC "Do not connect to these pins.", 13 NC "Do not connect to these pins.", 14 DVCC (power) "Digital Supply. Voltage ranges from 2.7 V to 5.5 V.", 15 GND (power) "Ground Reference.", 16 SDO (out) "Serial Data Output. Used to clock data from the serial register in daisy-chain or readback mode. Data is clocked out on the rising edge of SCLK and is valid on the falling edge of SCLK.", 17 REFIN (in) "External Reference Voltage Input. Reference input range is 2 V to 3 V. REFIN = 2.5 V for specified performance.", 18 DAC_GND (power) "Ground Reference for the Two Digital-to-Analog Converters (DACs).", 19 DAC_GND (power) "Ground Reference for the Two Digital-to-Analog Converters (DACs).", 20 SIG_GND (power) "Ground Reference for the Two Output Amplifiers.", 21 SIG_GND (power) "Ground Reference for the Two Output Amplifiers.", 22 NC "Do not connect to these pins.", 23 VOUTB (out) "Analog Output Voltage of DAC B. The output amplifier is capable of directly driving a 2 kohm, 4000 pF load.", 24 AVDD (power) "Positive Analog Supply. Voltage ranges from 4.5 V to 16.5 V.", 25 EP (power) "This exposed paddle should be connected to the potential of the AVSS pin, or alternatively, it can be left electrically  unconnected. It is recommended that the paddle be thermally connected to a copper plane for enhanced (See Datasheet)"

## AD5752RBREZ
designator U?
Dual 16-Bit Voltage Output Digital-to-Analog Converter with Serial Interface, -40 to +85 degC, RE-24, Pb-Free, Tube; Generic Part Number: AD5752R; Manufacturer: Analog Devices; PartNumber: AD5752RBREZ; # DAC Outputs: 2; Max V+: 16.5V; Op Pwr Diss: 190mW; Resolution (Bits): 16; Settling Time: 7.5µs; Single Supply: Yes; DatasheetVersion: Rev.D; PackageVersion: 050806-A; PackageReference: RE-24; PackageDescription: 24-Lead Thin Shrink Small Outline Package, Exposed Pad [TSSOP_EP]; Supplier 1: Digi-Key; Supplier Part Number 1: AD5752RBREZ-ND; Supplier 2: Farnell; Supplier Part Number 2: 1786049; Supplier 3: Newark; Supplier Part Number 3: 62R9197; Supplier 4: Newark; Supplier Part Number 4: 34P3174; Supplier 5: Mouser; Supplier Part Number 5: 584-AD5752RBREZ; Packing: Tube; RoHS: Y; Mounting Technology: Surface Mount; Code_JEDEC: MO-153-ADT; ComponentLink1Description: Manufacturer URL; ComponentLink1URL: http://www.analog.com/en/index.html; ComponentLink2Description: Datasheet; ComponentLink2URL: http://www.analog.com/static/imported-files/data_sheets/AD5722R_5732R_5752R.pdf; ComponentLink3Description: Package Specification; ComponentLink3URL: http://www.analog.com/static/imported-files/packages/PKG_PDF/TSSOP_EP(RE)/RE_24.pdf; ComponentLink4Description: Product URL; ComponentLink4URL: http://www.analog.com/en/digital-to-analog-converters/da-converters/ad5752r/products/product.html; ComponentLink5Description: Reference Design URL; ComponentLink5URL: http://www.analog.com/en/digital-to-analog-converters/da-converters/ad5752r/products/product.html#prod_cross_sell
footprint RE-24_N (TSOP, 24-Leads, Body 7.8x4.4mm, Pitch 0.65mm, Thermal pad 5.02x3.25 mm, IPC Medium Density)
footprint RE-24_L (TSOP, 24-Leads, Body 7.8x4.4mm, Pitch 0.65mm, Thermal pad 5.02x3.25 mm, IPC High Density)
footprint RE-24_M (TSOP, 24-Leads, Body 7.8x4.4mm, Pitch 0.65mm, Thermal pad 5.02x3.25 mm, IPC Low Density)
pins: 1 AVSS (power) "Negative Analog Supply. Voltage ranges from -4.5 V to -16.5 V. This pin can be connected to 0 V if output ranges are unipolar.", 2 NC "Do not connect to these pins.", 3 VOUTA (out) "Analog Output Voltage of DAC A. The output amplifier is capable of directly driving a 2 kohm, 4000 pF load.", 4 NC "Do not connect to these pins.", 5 BIN/~{2SCOMP} (in) "Determines the DAC coding for a bipolar output range. This pin should be hardwired to either DVCC or GND. When hardwired to DVCC, input coding is offset binary. When hardwired to GND, input coding is twos complement. (For (See Datasheet)", 6 NC "Do not connect to these pins.", 7 ~{SYNC} (in) "Active Low Input. This is the frame S\Y\N\C\hronization signal for the serial interface. While S\Y\N\C\ is low, data is transferred on the falling edge of SCLK. Data is latched on the rising edge of S\Y\N\C\.", 8 SCLK (in) "Serial Clock Input. Data is clocked into the shift register on the falling edge of SCLK. This operates at clock speeds up to 30 MHz.", 9 SDIN (in) "Serial Data Input. Data must be valid on the falling edge of SCLK.", 10 ~{LDAC} (in) "Load DAC, Logic Input. This is used to update the DAC registers and, consequently, the analog output. When this pin is tied permanently low, the addressed DAC register is updated on the rising edge of S\Y\N\C\. If L\D\A\C\ (See Datasheet)", 11 ~{CLR} (in) "Active Low Input. Asserting this pin sets the DAC registers to zero-scale code or midscale code (user selectable).", 12 NC "Do not connect to these pins.", 13 NC "Do not connect to these pins.", 14 DVCC (power) "Digital Supply. Voltage ranges from 2.7 V to 5.5 V.", 15 GND (power) "Ground Reference.", 16 SDO (out) "Serial Data Output. Used to clock data from the serial register in daisy-chain or readback mode. Data is clocked out on the rising edge of SCLK and is valid on the falling edge of SCLK.", 17 REFIN/REFOUT (io) "External Reference Voltage Input and Internal Reference Voltage Output. Reference input range is 2 V to 3 V. REFIN = 2.5 V for specified performance. REFOUT = 2.5 V +/- 2 mV.", 18 DAC_GND (power) "Ground Reference for the Four Digital-to-Analog Converters.", 19 DAC_GND (power) "Ground Reference for the Four Digital-to-Analog Converters.", 20 SIG_GND (power) "Ground Reference for the Four Output Amplifiers.", 21 SIG_GND (power) "Ground Reference for the Four Output Amplifiers.", 22 NC "Do not connect to these pins.", 23 VOUTB (out) "Analog Output Voltage of DAC B. The output amplifier is capable of directly driving a 2 kohm, 4000 pF load.", 24 AVDD (power) "Positive Analog Supply. Voltage ranges from 4.5 V to 16.5 V.", 25 EP "This exposed paddle should be connected to the potential of the AVSS pin, or alternatively, it can be left electrically unconnected. It is recommended that the paddle be thermally connected to a copper plane for enhanced (See Datasheet)"